# Altium schematic symbol library Resistor.SchLib: 93 symbols (part 1 of 2)
Pins are listed as number, name and electrical type; pins without a type are passive.

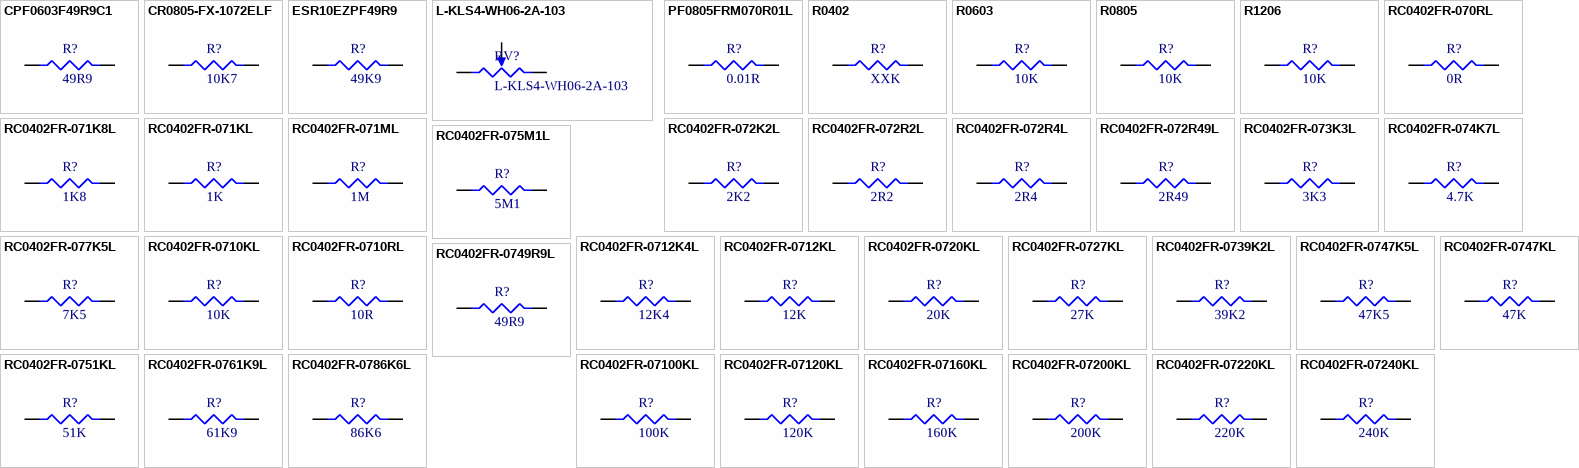
[diagram p0: symbols CPF0603F49R9C1 to RC0402FR-07240KL]

## CPF0603F49R9C1
designator R?, comment 49R9
49.9R, %1, 1/10W, 0603; Manufacturer: TE CON; Manufacturer Part Number: CPF0603F49R9C1; Tolerance: 1%; Value: 49.9; Temperature Coefficient: 50ppm/°C; Power Rating: 125mW; Voltage Rating: 50V; Purpose Of Usage: BASIC; Supplier 1: Digi-Key; Supplier Part Number 1: A102283CT-ND; RoHS: YES; Mount: SMD; Case/Package: 0603; Case Code (Imperial): 0603; Min Operating Temperature: -55°C; Max Operating Temperature: 155°C; Voltage Rating (DC): 50V; Category: RESISTOR; Sub-Category: CHIP RESISTOR; Stock ID: ??; Max Power Dissipation: 125mW; Price 10K: 0.0025; Local Supplier: GENERAL
footprint R0603
simulation model R_Resistor_Default (Model Description)
pins: 1, 2

## CR0805-FX-1072ELF
designator R?, comment 10K7
10.7K, %1, 1/8W, 0805; Manufacturer: BOURNS; Manufacturer Part Number: CR0805-FX-1072ELF; Value: 10700; Tolerance: 1%; Power Rating: 125mW; Voltage Rating: 150V; Temperature Coefficient: 100ppm/°C; Purpose Of Usage: BASIC; Supplier 1: Digi-Key; Supplier Part Number 1: CR0805-FX-1072ELF-ND; RoHS: YES; Mount: SMD; Case/Package: 0805; Case Code (Imperial): 0805; Min Operating Temperature: -55°C; Max Operating Temperature: 155°C; Max Power Dissipation: 125mW; Category: RESISTOR; Sub-Category: CHIP RESISTOR; Stock ID: ??; Price 10K: 0.0025; Local Supplier: GENERAL
footprint R0805
pins: 1, 2

## ESR10EZPF49R9
designator R?, comment 49K9
49.9R, %1, 1/8W, 0805; Manufacturer: ROHM; Manufacturer Part Number: ESR10EZPF49R9; Value: 49.9; Tolerance: 1%; Max Power Dissipation: 400mW; Temperature Coefficient: 100ppm/°C; Purpose Of Usage: BASIC; Supplier 1: Digi-Key; Supplier Part Number 1: RHM49.9AECT-ND; RoHS: YES; Case/Package: 0805; Case Code (Imperial): 0805; Min Operating Temperature: -55°C; Max Operating Temperature: 155°C; Category: RESISTOR; Sub-Category: CHIP RESISTOR; Stock ID: ??; Mount: SMD; Power Rating: 400mW; Price 10K: 0.0025; Local Supplier: GENERAL
footprint R0805
pins: 1, 2

## L-KLS4-WH06-2A-103
designator RV?
10K, %5, 1/10W, THT; Manufacturer: KLS ELECTRONIC; Max Power Dissipation: 100mW; Value: 10000; Tolerance: 5%; Purpose Of Usage: BASIC; Category: RESISTOR; Manufacturer Part Number: L-KLS4-WH06-2A-103; Supplier 1: Özdisan; Supplier Part Number 1: L-KLS4-WH06-2A-103; Sub-Category: TRIMPOT; Stock ID: ??; Mount: THT; Min Operating Temperature: -25°C; Power Rating: 100mW; RoHS: YES; Max Operating Temperature: 75°C; Price 10K: 0.0025; Local Supplier: GENERAL
footprint L-KLS4-WH06-2A-103
pins: 1, 2, 3

## PF0805FRM070R01L
designator R?, comment 0.01R
0.01R, %1,  1/8W, 0805; Manufacturer: YAGEO; Manufacturer Part Number: PF0805FRM070R01L; Max Power Dissipation: 125mW; Temperature Coefficient: 75ppm/°C; Value: 0.01; Tolerance: 1%; Purpose Of Usage: BASIC; Supplier 1: Digi-Key; RoHS: YES; Category: RESISTOR; Case/Package: 0805; Case Code (Imperial): 0805; Supplier Part Number 1: 311-0.01NTTR-ND; Mount: SMD; Stock ID: ??; Sub-Category: CHIP RESISTOR; Price 10K: 0.0025; Local Supplier: GENERAL
footprint R0805 (Chip Resistor, 2-Leads, Body 2.00x1.25mm, IPC Medium Density)
pins: 1, 2

## R0402
designator R?, comment XXK
RES; Manufacturer: YAGEO; Manufacturer Part Number: RC0201FR-0710KL; Value: 10000; Tolerance: 1%; Power Rating: 50mW; Voltage Rating: 25V; Temperature Coefficient: 200ppm/°C; Purpose Of Usage: BASIC; Supplier 1: Digi-Key; Supplier Part Number 1: 311-10.0KMCT-ND; RoHS: YES; Case/Package: 0201; Case Code (Imperial): 0201; Min Operating Temperature: -55°C; Max Operating Temperature: 125°C; Max Power Dissipation: 50mW; Voltage Rating (DC): 25V; Working Voltage: 25V; Category: RESISTOR; Sub-Category: CHIP RESISTOR; Stock ID: ??; Mount: SMD; Price 10K: 0.0025; Local Supplier: GENERAL
footprint R0402 (Chip Resistor, 2-Leads, Body 1.00x0.50mm, IPC Medium Density)
pins: 1, 2

## R0603
designator R?, comment 10K
RES; Manufacturer: YAGEO; Manufacturer Part Number: RC0201FR-0710KL; Value: 10000; Tolerance: 1%; Power Rating: 50mW; Voltage Rating: 25V; Temperature Coefficient: 200ppm/°C; Purpose Of Usage: BASIC; Supplier 1: Digi-Key; Supplier Part Number 1: 311-10.0KMCT-ND; RoHS: YES; Case/Package: 0201; Case Code (Imperial): 0201; Min Operating Temperature: -55°C; Max Operating Temperature: 125°C; Max Power Dissipation: 50mW; Voltage Rating (DC): 25V; Working Voltage: 25V; Category: RESISTOR; Sub-Category: CHIP RESISTOR; Stock ID: ??; Mount: SMD; Price 10K: 0.0025; Local Supplier: GENERAL
footprint R0603
pins: 1, 2

## R0805
designator R?, comment 10K
RES; Manufacturer: PANASONIC; Manufacturer Part Number: ERJ6GEYJ514V; Value: 510000; Power Rating: 125mW; Tolerance: 5%; Voltage Rating: 150V; Temperature Coefficient: 200ppm/°C; Purpose Of Usage: BASIC; Supplier 1: Digi-Key; Supplier Part Number 1: P510KACT-ND; RoHS: YES; Mount: SMD; Case/Package: 0805; Case Code (Imperial): 0805; Min Operating Temperature: -55°C; Max Operating Temperature: 155°C; Max Power Dissipation: 125mW; Voltage Rating (DC): 150V; Category: RESISTOR; Sub-Category: CHIP RESISTOR; Stock ID: ??; Price 10K: 0.0025; Local Supplier: GENERAL
footprint R0805
pins: 1, 2

## R1206
designator R?, comment 10K
RES; Manufacturer: YAGEO; Manufacturer Part Number: RC1206FR-0710KL; Value: 10000; Power Rating: 250mW; Tolerance: 1%; Temperature Coefficient: 100ppm/°C; Voltage Rating: 200V; Purpose Of Usage: BASIC; Supplier 1: Digi-Key; Supplier Part Number 1: 311-10.0KFRTR-ND; RoHS: YES; Case/Package: 1206; Case Code (Imperial): 1206; Min Operating Temperature: -55°C; Max Operating Temperature: 155°C; Category: RESISTOR; Sub-Category: CHIP RESISTOR; Stock ID: ??; Mount: SMD; Max Power Dissipation: 250mW; Price 10K: 0.0025; Local Supplier: GENERAL
footprint R1206
pins: 1, 2

## RC0402FR-070RL
designator R?, comment 0R
0R, %1, 1/10W,  0402; Manufacturer: YAGEO; Manufacturer Part Number: RC0402FR-070RL; Value: 0; Tolerance: 1%; Power Rating: 63mW; Voltage Rating: 50V; Temperature Coefficient: 200ppm/°C; Purpose Of Usage: BASIC; Supplier 1: Digi-Key; RoHS: YES; Mount: SMD; Case/Package: 0402; Case Code (Imperial): 0402; Min Operating Temperature: -55°C; Max Operating Temperature: 155°C; Max Power Dissipation: 63mW; Category: RESISTOR; Supplier Part Number 1: 311-0.0LRCT-ND; Sub-Category: CHIP RESISTOR; Stock ID: ??; Price 10K: 0.0025; Local Supplier: GENERAL
footprint R0402
pins: 1, 2

## RC0402FR-071K8L
designator R?, comment 1K8
1.8K, %1, 1/16W, 0402; Manufacturer: YAGEO; Manufacturer Part Number: RC0402FR-071K8L; Tolerance: 1%; Power Rating: 63mW; Value: 1800; Voltage Rating: 50V; Temperature Coefficient: 100ppm/°C; Purpose Of Usage: BASIC; Supplier 1: Digi-Key; RoHS: YES; Category: RESISTOR; Case/Package: 0402; Case Code (Imperial): 0402; Min Operating Temperature: -55°C; Max Operating Temperature: 155°C; Max Power Dissipation: 63mW; Working Voltage: 50V; Supplier Part Number 1: 311-1.80KLRCT-ND; Mount: SMD; Stock ID: ??; Sub-Category: CHIP RESISTOR; Price 10K: 0.0025; Local Supplier: GENERAL
footprint R0402 (Chip Resistor, 2-Leads, Body 1.00x0.50mm, IPC Medium Density)
pins: 1, 2

## RC0402FR-071KL
designator R?, comment 1K
1K, %1, 1/16W, 0402; Manufacturer: YAGEO; Manufacturer Part Number: RC0402FR-071KL; Tolerance: 1%; Value: 1000; Temperature Coefficient: 100ppm/°C; Power Rating: 63mW; Voltage Rating: 50V; Purpose Of Usage: BASIC; Supplier 1: Digi-Key; RoHS: YES; Category: RESISTOR; Case/Package: 0402; Case Code (Imperial): 0402; Min Operating Temperature: -55°C; Max Operating Temperature: 155°C; Voltage Rating (DC): 50V; Max Power Dissipation: 63mW; Supplier Part Number 1: 311-1.00KLRCT-ND; Stock ID: ??; Mount: SMD; Sub-Category: CHIP RESISTOR; Price 10K: 0.0025; Local Supplier: GENERAL
footprint R0402 (Chip Resistor, 2-Leads, Body 1.00x0.50mm, IPC Medium Density)
pins: 1, 2

## RC0402FR-071ML
designator R?, comment 1M
1M, %1, 1/16W, 0402; Manufacturer: YAGEO; Manufacturer Part Number: RC0402FR-071ML; Value: 1000000; Tolerance: 1%; Power Rating: 63mW; Voltage Rating: 50V; Temperature Coefficient: 100ppm/°C; Purpose Of Usage: BASIC; Supplier 1: Digi-Key; RoHS: YES; Category: RESISTOR; Case/Package: 0402; Case Code (Imperial): 0402; Min Operating Temperature: -55°C; Max Operating Temperature: 155°C; Max Power Dissipation: 63mW; Supplier Part Number 1: 311-1.00MLRTR-ND; Mount: SMD; Price 10K: 0.0025; Stock ID: ??; Sub-Category: CHIP RESISTOR; Voltage Rating (DC): 50V; Local Supplier: GENERAL
footprint R0402 (Chip Resistor, 2-Leads, Body 1.00x0.50mm, IPC Medium Density)
pins: 1, 2

## RC0402FR-072K2L
designator R?, comment 2K2
2.2K, %1, 1/16W, 0402; Manufacturer: YAGEO; Manufacturer Part Number: RC0402FR-072K2L; Value: 2200; Tolerance: 1%; Power Rating: 62.5mW; Temperature Coefficient: 100ppm/°C; Voltage Rating: 50V; Max Power Dissipation: 63mW; Purpose Of Usage: BASIC; Supplier 1: Digi-Key; RoHS: YES; Category: RESISTOR; Case/Package: 0402; Case Code (Imperial): 0402; Min Operating Temperature: -55°C; Max Operating Temperature: 155°C; Supplier Part Number 1: 311-2.20KLRCT-ND; Mount: SMD; Stock ID: ??; Sub-Category: CHIP RESISTOR; Price 10K: 0.0025; Local Supplier: GENERAL
footprint R0402 (Chip Resistor, 2-Leads, Body 1.00x0.50mm, IPC Medium Density)
pins: 1, 2

## RC0402FR-072R2L
designator R?, comment 2R2
2.2R, %1, 1/16W, 0402; Manufacturer: YAGEO; Manufacturer Part Number: RC0402FR-072R2L; Value: 2.2; Tolerance: 1%; Power Rating: 63mW; Voltage Rating: 50V; Temperature Coefficient: 200ppm/°C; Purpose Of Usage: BASIC; Supplier 1: Digi-Key; RoHS: YES; Category: RESISTOR; Case/Package: 0402; Case Code (Imperial): 0402; Min Operating Temperature: -55°C; Max Operating Temperature: 155°C; Voltage Rating (DC): 50V; Max Power Dissipation: 63mW; Supplier Part Number 1: 311-2.20LRCT-ND; Stock ID: ??; Mount: SMD; Sub-Category: CHIP RESISTOR; Price 10K: 0.0025; Local Supplier: GENERAL
footprint R0402 (Chip Resistor, 2-Leads, Body 1.00x0.50mm, IPC Medium Density)
pins: 1, 2

## RC0402FR-072R4L
designator R?, comment 2R4
2.4R, %1, 1/16W, 0402; Manufacturer: YAGEO; Manufacturer Part Number: RC0402FR-072R4L; Value: 2.4; Power Rating: 62.5mW; Tolerance: 1%; Voltage Rating: 50V; Temperature Coefficient: 200ppm/°C; Max Power Dissipation: 63mW; Purpose Of Usage: BASIC; Supplier 1: Digi-Key; RoHS: YES; Category: RESISTOR; Case/Package: 0402; Case Code (Imperial): 0402; Min Operating Temperature: -55°C; Max Operating Temperature: 155°C; Voltage Rating (DC): 50V; Supplier Part Number 1: 13-RC0402FR-072R4LTR-ND; Mount: SMD; Stock ID: ??; Sub-Category: CHIP RESISTOR; Price 10K: 0.0025; Local Supplier: GENERAL
footprint R0402 (Chip Resistor, 2-Leads, Body 1.00x0.50mm, IPC Medium Density)
pins: 1, 2

## RC0402FR-072R49L
designator R?, comment 2R49
2.49R %1 1/16W 0402; Manufacturer: YAGEO; Manufacturer Part Number: RC0402FR-072R49L; Tolerance: 1%; Temperature Coefficient: 200ppm/°C; Power Rating: 62.5mW; Voltage Rating: 50V; Max Power Dissipation: 63mW; Value: 2.49; Purpose Of Usage: BASIC; Supplier 1: Digi-Key; RoHS: YES; Category: RESISTOR; Case/Package: 0402; Case Code (Imperial): 0402; Min Operating Temperature: -55°C; Max Operating Temperature: 155°C; Supplier Part Number 1: 13-RC0402FR-072R49LCT-ND; Mount: SMD; Stock ID: ??; Sub-Category: CHIP RESISTOR; Price 10K: 0.0025; Local Supplier: GENERAL
footprint R0402 (Chip Resistor, 2-Leads, Body 1.00x0.50mm, IPC Medium Density)
pins: 1, 2

## RC0402FR-073K3L
designator R?, comment 3K3
3.3K, %1, 1/16W, 0402; Manufacturer: YAGEO; Manufacturer Part Number: RC0402FR-073K3L; Value: 3300; Tolerance: 1%; Power Rating: 63mW; Voltage Rating: 50V; Temperature Coefficient: 100ppm/°C; Purpose Of Usage: BASIC; Supplier 1: Digi-Key; RoHS: YES; Category: RESISTOR; Case/Package: 0402; Case Code (Imperial): 0402; Min Operating Temperature: -55°C; Max Operating Temperature: 155°C; Max Power Dissipation: 63mW; Voltage Rating (DC): 50V; Supplier Part Number 1: 311-3.30KLRTR-ND; Local Supplier: GENERAL; Mount: SMD; Price 10K: 0.0025; Stock ID: ??; Sub-Category: CHIP RESISTOR
footprint R0402 (Chip Resistor, 2-Leads, Body 1.00x0.50mm, IPC Medium Density)
pins: 1, 2

## RC0402FR-074K7L
designator R?, comment 4.7K
4.7K, %1, 1/16W, 0402; Manufacturer: YAGEO; Manufacturer Part Number: RC0402FR-074K7L; Voltage Rating (DC): 50V; Tolerance: 1%; Power Rating: 63mW; Value: 4700; Temperature Coefficient: 100ppm/°C; Purpose Of Usage: BASIC; Supplier 1: Digi-Key; RoHS: YES; Category: RESISTOR; Case/Package: 0402; Case Code (Imperial): 0402; Min Operating Temperature: -55°C; Max Operating Temperature: 155°C; Voltage Rating: 50V; Max Power Dissipation: 63mW; Supplier Part Number 1: 311-4.7KLRCT-ND; Stock ID: ??; Mount: SMD; Sub-Category: CHIP RESISTOR; Price 10K: 0.0025; Local Supplier: GENERAL
footprint R0402 (Chip Resistor, 2-Leads, Body 1.00x0.50mm, IPC Medium Density)
pins: 1, 2

## RC0402FR-075M1L
designator R?, comment 5M1
5.1M, %1, 1/16W, 0402; Manufacturer: YAGEO; Manufacturer Part Number: RC0402FR-075M1L; Max Power Dissipation: 63mW; Purpose Of Usage: BASIC; Temperature Coefficient: 100ppm/°C; Tolerance: 1%; Value: 5100000; Voltage Rating: 50V; Supplier 1: Digi-Key; RoHS: YES; Category: RESISTOR; Supplier Part Number 1: 13-RC0402FR-075M1LDKR-ND; Case/Package: 0402; Case Code (Imperial): 0402; Local Supplier: GENERAL; Max Operating Temperature: 155°C; Min Operating Temperature: -55°C; Mount: SMD; Power Rating: 63mW; Price 10K: 0.0025; Sub-Category: CHIP RESISTOR; Stock ID: ??
footprint R0402 (Chip Resistor, 2-Leads, Body 1.00x0.50mm, IPC Medium Density)
pins: 1, 2

## RC0402FR-077K5L
designator R?, comment 7K5
7.5K, %1, 1/16W, 0402; Manufacturer: YAGEO; Manufacturer Part Number: RC0402FR-077K5L; Value: 7500; Power Rating: 63mW; Tolerance: 1%; Voltage Rating: 50V; Temperature Coefficient: 100ppm/°C; Purpose Of Usage: BASIC; Supplier 1: Digi-Key; RoHS: YES; Category: RESISTOR; Case/Package: 0402; Case Code (Imperial): 0402; Min Operating Temperature: -55°C; Max Operating Temperature: 155°C; Max Power Dissipation: 63mW; Voltage Rating (DC): 50V; Supplier Part Number 1: 311-7.50KLRTR-ND; Mount: SMD; Stock ID: ??; Sub-Category: CHIP RESISTOR; Price 10K: 0.0025; Local Supplier: GENERAL
footprint R0402 (Chip Resistor, 2-Leads, Body 1.00x0.50mm, IPC Medium Density)
pins: 1, 2

## RC0402FR-0710KL
designator R?, comment 10K
10K, %1, 1/16W, 0402; Manufacturer: YAGEO; Manufacturer Part Number: RC0402FR-0710KL; Voltage Rating: 50V; Value: 10000; Power Rating: 63mW; Tolerance: 1%; Temperature Coefficient: 100ppm/°C; Purpose Of Usage: BASIC; Supplier 1: Digi-Key; RoHS: YES; Category: RESISTOR; Case/Package: 0402; Case Code (Imperial): 0402; Min Operating Temperature: -55°C; Max Operating Temperature: 155°C; Max Power Dissipation: 63mW; Voltage Rating (DC): 50V; Working Voltage: 50V; Supplier Part Number 1: 311-10.0KLRCT-ND; Stock ID: ??; Mount: SMD; Sub-Category: CHIP RESISTOR; Price 10K: 0.0025; Local Supplier: GENERAL
footprint R0402 (Chip Resistor, 2-Leads, Body 1.00x0.50mm, IPC Medium Density)
pins: 1, 2

## RC0402FR-0710RL
designator R?, comment 10R
10R, %1, 1/16W, 0402; Manufacturer: YAGEO; Manufacturer Part Number: RC0402FR-0710RL; Tolerance: 1%; Power Rating: 62.5mW; Voltage Rating: 50V; Value: 10; Temperature Coefficient: 200ppm/°C; Max Power Dissipation: 63mW; Purpose Of Usage: BASIC; Supplier 1: Digi-Key; RoHS: YES; Category: RESISTOR; Case/Package: 0402; Case Code (Imperial): 0402; Min Operating Temperature: -55°C; Max Operating Temperature: 155°C; Working Voltage: 50V; Supplier Part Number 1: 311-10.0LRTR-ND; Local Supplier: GENERAL; Mount: SMD; Price 10K: 0.0025; Stock ID: ??; Sub-Category: CHIP RESISTOR; Voltage Rating (DC): 50V
footprint R0402 (Chip Resistor, 2-Leads, Body 1.00x0.50mm, IPC Medium Density)
pins: 1, 2

## RC0402FR-0712K4L
designator R?, comment 12K4
12.4K, %1, 1/16W, 0402; Manufacturer: YAGEO; Manufacturer Part Number: RC0402FR-0712K4L; Tolerance: 1%; Value: 12400; Power Rating: 62.5mW; Voltage Rating: 50V; Temperature Coefficient: 100ppm/°C; Max Power Dissipation: 63mW; Purpose Of Usage: BASIC; Supplier 1: Digi-Key; RoHS: YES; Category: RESISTOR; Case/Package: 0402; Case Code (Imperial): 0402; Min Operating Temperature: -55°C; Max Operating Temperature: 155°C; Voltage Rating (DC): 50V; Supplier Part Number 1: 311-12.4KLRTR-ND; Mount: SMD; Price 10K: 0.0025; Stock ID: ??; Sub-Category: CHIP RESISTOR; Local Supplier: GENERAL
footprint R0402 (Chip Resistor, 2-Leads, Body 1.00x0.50mm, IPC Medium Density)
pins: 1, 2

## RC0402FR-0712KL
designator R?, comment 12K
12K, %1, 1/16W, 0402; Manufacturer: YAGEO; Manufacturer Part Number: RC0402FR-0712KL; Value: 12000; Tolerance: 1%; Power Rating: 62.5mW; Voltage Rating: 50V; Max Power Dissipation: 63mW; Temperature Coefficient: 100ppm/°C; Purpose Of Usage: BASIC; Supplier 1: Digi-Key; RoHS: Yes; Category: RESISTOR; Case/Package: 0402; Case Code (Imperial): 0402; Min Operating Temperature: -55°C; Max Operating Temperature: 155°C; Supplier Part Number 1: 311-12.0KLRCT-ND; Local Supplier: GENERAL; Mount: SMD; Price 10K: 0.0025; Stock ID: ??; Sub-Category: CHIP RESISTOR; Voltage Rating (DC): 50V
footprint R0402 (Chip Resistor, 2-Leads, Body 1.00x0.50mm, IPC Medium Density)
pins: 1, 2

## RC0402FR-0720KL
designator R?, comment 20K
20K, %1, 1/16W, 0402; Manufacturer: YAGEO; Manufacturer Part Number: RC0402FR-0720KL; Tolerance: 1%; Value: 20000; Power Rating: 62.5mW; Voltage Rating: 50V; Temperature Coefficient: 100ppm/°C; Max Power Dissipation: 63mW; Purpose Of Usage: BASIC; Supplier 1: Digi-Key; RoHS: YES; Category: RESISTOR; Case/Package: 0402; Case Code (Imperial): 0402; Min Operating Temperature: -55°C; Max Operating Temperature: 155°C; Voltage Rating (DC): 50V; Supplier Part Number 1: 311-20.0KLRTR-ND; Mount: SMD; Stock ID: ??; Sub-Category: CHIP RESISTOR; Price 10K: 0.0025; Local Supplier: GENERAL
footprint R0402 (Chip Resistor, 2-Leads, Body 1.00x0.50mm, IPC Medium Density)
pins: 1, 2

## RC0402FR-0727KL
designator R?, comment 27K
27K, %1, 1/16W, 0402; Manufacturer: YAGEO; Manufacturer Part Number: RC0402FR-0727KL; Value: 27000; Tolerance: 1%; Power Rating: 63mW; Temperature Coefficient: 100ppm/°C; Voltage Rating: 50V; Purpose Of Usage: BASIC; Supplier 1: Digi-Key; RoHS: YES; Category: RESISTOR; Case/Package: 0402; Case Code (Imperial): 0402; Min Operating Temperature: -55°C; Max Operating Temperature: 155°C; Max Power Dissipation: 63mW; Supplier Part Number 1: 311-27.0KLRCT-ND; Local Supplier: GENERAL; Mount: SMD; Price 10K: 0.0025; Stock ID: ??; Sub-Category: CHIP RESISTOR
footprint R0402 (Chip Resistor, 2-Leads, Body 1.00x0.50mm, IPC Medium Density)
pins: 1, 2

## RC0402FR-0739K2L
designator R?, comment 39K2
39.2K, %1, 1/16W, 0402; Manufacturer: YAGEO; Manufacturer Part Number: RC0402FR-0739K2L; Value: 39200; Tolerance: 1%; Power Rating: 62.5mW; Voltage Rating: 50V; Temperature Coefficient: 100ppm/°C; Max Power Dissipation: 63mW; Purpose Of Usage: BASIC; Supplier 1: Digi-Key; RoHS: YES; Category: RESISTOR; Case/Package: 0402; Case Code (Imperial): 0402; Min Operating Temperature: -55°C; Max Operating Temperature: 155°C; Voltage Rating (DC): 50V; Working Voltage: 50V; Supplier Part Number 1: 311-39.2KLRTR-ND; Local Supplier: GENERAL; Mount: SMD; Price 10K: 0.0025; Stock ID: ??; Sub-Category: CHIP RESISTOR
footprint R0402 (Chip Resistor, 2-Leads, Body 1.00x0.50mm, IPC Medium Density)
pins: 1, 2

## RC0402FR-0747K5L
designator R?, comment 47K5
47.5K, %1, 1/16W, 0402; Manufacturer: YAGEO; Manufacturer Part Number: RC0402FR-0747K5L; Value: 47500; Power Rating: 63mW; Tolerance: 1%; Voltage Rating: 50V; Temperature Coefficient: 100ppm/°C; Purpose Of Usage: BASIC; Supplier 1: Digi-Key; RoHS: YES; Category: RESISTOR; Case/Package: 0402; Case Code (Imperial): 0402; Min Operating Temperature: -55°C; Max Operating Temperature: 155°C; Voltage Rating (DC): 50V; Max Power Dissipation: 63mW; Supplier Part Number 1: 311-47.5KLRCT-ND; Stock ID: ??; Mount: SMD; Sub-Category: CHIP RESISTOR; Price 10K: 0.0025; Local Supplier: GENERAL
footprint R0402 (Chip Resistor, 2-Leads, Body 1.00x0.50mm, IPC Medium Density)
pins: 1, 2

## RC0402FR-0747KL
designator R?, comment 47K
47K, %1, 1/16W, 0402; Manufacturer: YAGEO; Manufacturer Part Number: RC0402FR-0747KL; Power Rating: 62.5mW; Tolerance: 1%; Voltage Rating: 50V; Value: 47000; Temperature Coefficient: 100ppm/°C; Max Power Dissipation: 63mW; Purpose Of Usage: BASIC; Supplier 1: Digi-Key; RoHS: YES; Category: RESISTOR; Case/Package: 0402; Case Code (Imperial): 0402; Min Operating Temperature: -55°C; Max Operating Temperature: 155°C; Supplier Part Number 1: 311-47.0KLRDKR-ND; Local Supplier: GENERAL; Mount: SMD; Price 10K: 0.0025; Stock ID: ??; Sub-Category: CHIP RESISTOR
footprint R0402 (Chip Resistor, 2-Leads, Body 1.00x0.50mm, IPC Medium Density)
pins: 1, 2

## RC0402FR-0749R9L
designator R?, comment 49R9
49.9R, %1, 1/16W, 0402; Manufacturer: YAGEO; Manufacturer Part Number: RC0402FR-0749R9L; Value: 49.9; Tolerance: 1%; Power Rating: 62.5mW; Voltage Rating: 50V; Temperature Coefficient: 100ppm/°C; Max Power Dissipation: 63mW; Purpose Of Usage: BASIC; Supplier 1: Digi-Key; RoHS: YES; Category: RESISTOR; Case/Package: 0402; Case Code (Imperial): 0402; Min Operating Temperature: -55°C; Max Operating Temperature: 155°C; Voltage Rating (DC): 50V; Working Voltage: 50V; Supplier Part Number 1: 311-49.9LRTR-ND; Mount: SMD; Price 10K: 0.0025; Stock ID: ??; Sub-Category: CHIP RESISTOR; Local Supplier: GENERAL
footprint R0402 (Chip Resistor, 2-Leads, Body 1.00x0.50mm, IPC Medium Density)
pins: 1, 2

## RC0402FR-0751KL
designator R?, comment 51K
51K, %1, 1/16W, 0402; Manufacturer: YAGEO; Manufacturer Part Number: RC0402FR-0751KL; Tolerance: 1%; Value: 51000; Power Rating: 63mW; Voltage Rating: 50V; Temperature Coefficient: 100ppm/°C; Purpose Of Usage: BASIC; Supplier 1: Digi-Key; RoHS: YES; Category: RESISTOR; Case/Package: 0402; Case Code (Imperial): 0402; Min Operating Temperature: -55°C; Max Operating Temperature: 155°C; Max Power Dissipation: 63mW; Voltage Rating (DC): 50V; Working Voltage: 50V; Supplier Part Number 1: 311-51.0KLRTR-ND; Stock ID: ??; Sub-Category: CHIP RESISTOR; Mount: SMD; Price 10K: 0.0025; Local Supplier: GENERAL
footprint R0402 (Chip Resistor, 2-Leads, Body 1.00x0.50mm, IPC Medium Density)
pins: 1, 2

## RC0402FR-0761K9L
designator R?, comment 61K9
61.9K, %1, 1/16W, 0402; Manufacturer: YAGEO; Manufacturer Part Number: RC0402FR-0761K9L; Value: 61900; Tolerance: 1%; Power Rating: 63mW; Temperature Coefficient: 100ppm/°C; Voltage Rating (DC): 50V; Purpose Of Usage: BASIC; Supplier 1: Digi-Key; RoHS: YES; Category: RESISTOR; Case/Package: 0402; Case Code (Imperial): 0402; Min Operating Temperature: -55°C; Max Operating Temperature: 155°C; Max Power Dissipation: 63mW; Supplier Part Number 1: 311-61.9KLRTR-ND; Local Supplier: GENERAL; Mount: SMD; Price 10K: 0.0025; Stock ID: ??; Sub-Category: CHIP RESISTOR
footprint R0402 (Chip Resistor, 2-Leads, Body 1.00x0.50mm, IPC Medium Density)
pins: 1, 2

## RC0402FR-0786K6L
designator R?, comment 86K6
86.6K, %1, 1/16W, 0402; Manufacturer: YAGEO; Manufacturer Part Number: RC0402FR-0786K6L; Value: 86600; Tolerance: 1%; Power Rating: 62.5mW; Voltage Rating: 50V; Temperature Coefficient: 100ppm/°C; Max Power Dissipation: 63mW; Purpose Of Usage: BASIC; Supplier 1: Digi-Key; RoHS: YES; Category: RESISTOR; Case/Package: 0402; Case Code (Imperial): 0402; Min Operating Temperature: -55°C; Max Operating Temperature: 155°C; Supplier Part Number 1: YAG3249TR-ND; Local Supplier: GENERAL; Price 10K: 0.0025; Stock ID: ??; Sub-Category: CHIP RESISTOR; Mount: SMD
footprint R0402 (Chip Resistor, 2-Leads, Body 1.00x0.50mm, IPC Medium Density)
pins: 1, 2

## RC0402FR-07100KL
designator R?, comment 100K
100K, %1, 1/16W, 0402; Manufacturer: YAGEO; Manufacturer Part Number: RC0402FR-07100KL; Power Rating: 63mW; Tolerance: 1%; Voltage Rating: 50V; Value: 100000; Temperature Coefficient: 100ppm/°C; Purpose Of Usage: BASIC; Supplier 1: Digi-Key; RoHS: YES; Category: RESISTOR; Case/Package: 0402; Case Code (Imperial): 0402; Min Operating Temperature: -55°C; Max Operating Temperature: 155°C; Max Power Dissipation: 63mW; Working Voltage: 50V; Supplier Part Number 1: 311-100KLRCT-ND; Stock ID: ??; Mount: SMD; Sub-Category: CHIP RESISTOR; Price 10K: 0.0025; Local Supplier: GENERAL
footprint R0402 (Chip Resistor, 2-Leads, Body 1.00x0.50mm, IPC Medium Density)
pins: 1, 2

## RC0402FR-07120KL
designator R?, comment 120K
120K, %1, 1/16W, 0402; Manufacturer: YAGEO; Manufacturer Part Number: RC0402FR-07120KL; Value: 120000; Power Rating: 63mW; Tolerance: 1%; Voltage Rating: 50V; Temperature Coefficient: 100ppm/°C; Purpose Of Usage: BASIC; Supplier 1: Digi-Key; RoHS: YES; Category: RESISTOR; Case/Package: 0402; Case Code (Imperial): 0402; Min Operating Temperature: -55°C; Max Operating Temperature: 155°C; Max Power Dissipation: 63mW; Working Voltage: 50V; Supplier Part Number 1: 311-120KLRDKR-ND; Mount: SMD; Stock ID: ??; Sub-Category: CHIP RESISTOR; Price 10K: 0.0025; Local Supplier: GENERAL
footprint R0402 (Chip Resistor, 2-Leads, Body 1.00x0.50mm, IPC Medium Density)
pins: 1, 2

## RC0402FR-07160KL
designator R?, comment 160K
160K, %1, 1/16W, 0402; Manufacturer: YAGEO; Manufacturer Part Number: RC0402FR-07160KL; Value: 160000; Tolerance: 1%; Power Rating: 63mW; Voltage Rating: 50V; Temperature Coefficient: 100ppm/°C; Purpose Of Usage: BASIC; Supplier 1: Digi-Key; RoHS: YES; Category: RESISTOR; Case/Package: 0402; Case Code (Imperial): 0402; Min Operating Temperature: -55°C; Max Operating Temperature: 155°C; Max Power Dissipation: 63mW; Voltage Rating (DC): 50V; Working Voltage: 50V; Supplier Part Number 1: YAG2996CT-ND; Local Supplier: GENERAL; Price 10K: 0.0025; Stock ID: ??; Sub-Category: CHIP RESISTOR; Mount: SMD
footprint R0402 (Chip Resistor, 2-Leads, Body 1.00x0.50mm, IPC Medium Density)
pins: 1, 2

## RC0402FR-07200KL
designator R?, comment 200K
200K, %1, 1/16W, 0402; Manufacturer: YAGEO; Manufacturer Part Number: RC0402FR-07200KL; Power Rating: 63mW; Tolerance: 1%; Voltage Rating: 50V; Temperature Coefficient: 100ppm/°C; Value: 200000; Purpose Of Usage: BASIC; Supplier 1: Digi-Key; RoHS: YES; Category: RESISTOR; Case/Package: 0402; Case Code (Imperial): 0402; Min Operating Temperature: -55°C; Max Operating Temperature: 155°C; Max Power Dissipation: 63mW; Voltage Rating (DC): 50V; Working Voltage: 50V; Supplier Part Number 1: 311-200KLRCT-ND; Mount: SMD; Stock ID: ??; Sub-Category: CHIP RESISTOR; Price 10K: 0.0025; Local Supplier: GENERAL
footprint R0402 (Chip Resistor, 2-Leads, Body 1.00x0.50mm, IPC Medium Density)
pins: 1, 2

## RC0402FR-07220KL
designator R?, comment 220K
220K, %1, 1/16W, 0402; Manufacturer: YAGEO; Manufacturer Part Number: RC0402FR-07220KL; Value: 220000; Power Rating: 62.5mW; Tolerance: 1%; Temperature Coefficient: 100ppm/°C; Voltage Rating: 50V; Max Power Dissipation: 63mW; Purpose Of Usage: BASIC; Supplier 1: Digi-Key; RoHS: YES; Category: RESISTOR; Case/Package: 0402; Case Code (Imperial): 0402; Min Operating Temperature: -55°C; Max Operating Temperature: 155°C; Supplier Part Number 1: 311-220KLRTR-ND; Mount: SMD; Stock ID: ??; Sub-Category: CHIP RESISTOR; Price 10K: 0.0025; Local Supplier: GENERAL
footprint R0402 (Chip Resistor, 2-Leads, Body 1.00x0.50mm, IPC Medium Density)
pins: 1, 2

## RC0402FR-07240KL
designator R?, comment 240K
240K, %1, 1/16W, 0402; Manufacturer: YAGEO; Manufacturer Part Number: RC0402FR-07240KL; Value: 240000; Power Rating: 62.5mW; Tolerance: 1%; Voltage Rating: 50V; Temperature Coefficient: 100ppm/°C; Max Power Dissipation: 63mW; Purpose Of Usage: BASIC; Supplier 1: Digi-Key; RoHS: YES; Category: RESISTOR; Case/Package: 0402; Case Code (Imperial): 0402; Min Operating Temperature: -55°C; Max Operating Temperature: 155°C; Voltage Rating (DC): 50V; Supplier Part Number 1: 311-240KLRTR-ND; Mount: SMD; Stock ID: ??; Sub-Category: CHIP RESISTOR; Price 10K: 0.0025; Local Supplier: GENERAL
footprint R0402 (Chip Resistor, 2-Leads, Body 1.00x0.50mm, IPC Medium Density)
pins: 1, 2

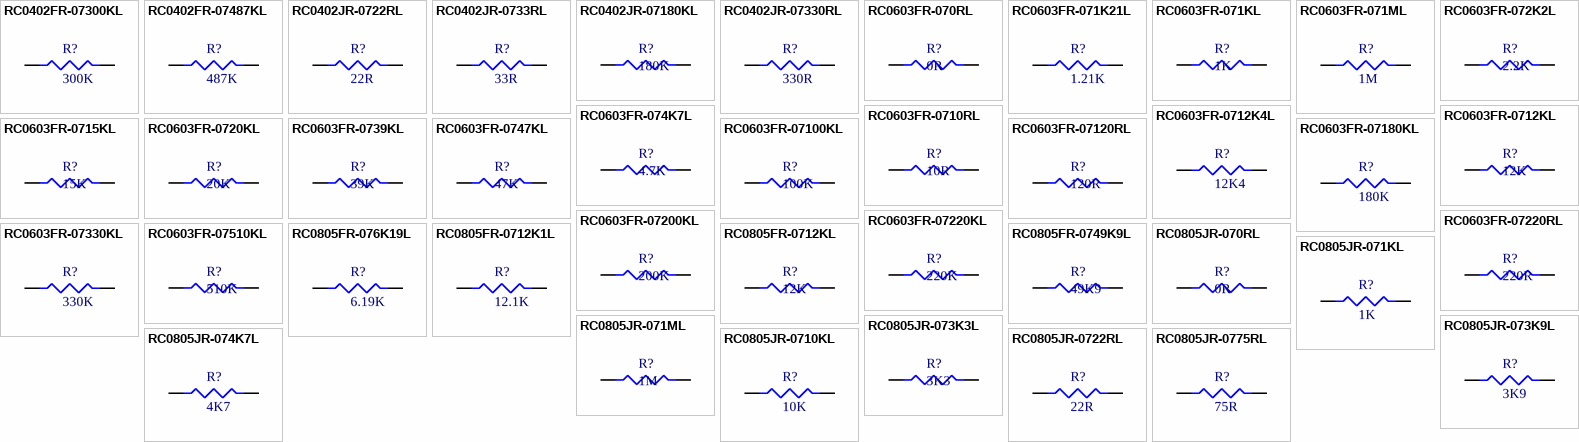
[diagram p1: symbols RC0402FR-07300KL to RC0805JR-0775RL]

## RC0402FR-07300KL
designator R?, comment 300K
300K, %1, 1/16W, 0402; Manufacturer: YAGEO; Manufacturer Part Number: RC0402FR-07300KL; Value: 300000; Power Rating: 63mW; Tolerance: 1%; Voltage Rating: 50V; Temperature Coefficient: 100ppm/°C; Purpose Of Usage: BASIC; Supplier 1: Digi-Key; RoHS: YES; Category: RESISTOR; Case/Package: 0402; Case Code (Imperial): 0402; Min Operating Temperature: -55°C; Max Operating Temperature: 155°C; Voltage Rating (DC): 50V; Max Power Dissipation: 63mW; Supplier Part Number 1: 311-300KLRTR-ND; Mount: SMD; Price 10K: 0.0025; Stock ID: ??; Sub-Category: CHIP RESISTOR; Local Supplier: GENERAL
footprint R0402 (Chip Resistor, 2-Leads, Body 1.00x0.50mm, IPC Medium Density)
pins: 1, 2

## RC0402FR-07487KL
designator R?, comment 487K
487K, %1, 1/16W, 0402; Manufacturer: YAGEO; Manufacturer Part Number: RC0402FR-07487KL; Value: 487000; Tolerance: 1%; Power Rating: 62.5mW; Voltage Rating: 50V; Max Power Dissipation: 63mW; Temperature Coefficient: 100ppm/°C; Purpose Of Usage: BASIC; Supplier 1: Digi-Key; RoHS: YES; Category: RESISTOR; Case/Package: 0402; Case Code (Imperial): 0402; Min Operating Temperature: -55°C; Max Operating Temperature: 155°C; Voltage Rating (DC): 50V; Supplier Part Number 1: YAG2372TR-ND; Local Supplier: GENERAL; Price 10K: 0.0025; Stock ID: ??; Sub-Category: CHIP RESISTOR; Mount: SMD
footprint R0402 (Chip Resistor, 2-Leads, Body 1.00x0.50mm, IPC Medium Density)
pins: 1, 2

## RC0402JR-0722RL
designator R?, comment 22R
22R, %5, 1/16W, 0402; Manufacturer: YAGEO; Manufacturer Part Number: RC0402JR-0722RL; Tolerance: 5%; Value: 22; Power Rating: 62.5mW; Voltage Rating: 50V; Temperature Coefficient: 100ppm/°C; Max Power Dissipation: 63mW; Purpose Of Usage: BASIC; Supplier 1: Digi-Key; RoHS: YES; Category: RESISTOR; Case/Package: 0402; Case Code (Imperial): 0402; Min Operating Temperature: -55°C; Max Operating Temperature: 155°C; Supplier Part Number 1: 311-22JRTR-ND; Mount: SMD; Stock ID: ??; Sub-Category: CHIP RESISTOR; Price 10K: 0.0025; Local Supplier: GENERAL
footprint R0402 (Chip Resistor, 2-Leads, Body 1.00x0.50mm, IPC Medium Density)
pins: 1, 2

## RC0402JR-0733RL
designator R?, comment 33R
33R, %5, 1/16W ,0402; Manufacturer: YAGEO; Manufacturer Part Number: RC0402JR-0733RL; Value: 33; Tolerance: 5%; Power Rating: 63mW; Voltage Rating: 50V; Temperature Coefficient: 100ppm/°C; Purpose Of Usage: BASIC; Supplier 1: Digi-Key; RoHS: YES; Category: RESISTOR; Case/Package: 0402; Case Code (Imperial): 0402; Min Operating Temperature: -55°C; Max Operating Temperature: 155°C; Max Power Dissipation: 63mW; Supplier Part Number 1: 311-33JRCT-ND; Stock ID: ??; Mount: SMD; Sub-Category: CHIP RESISTOR; Price 10K: 0.0025; Local Supplier: GENERAL
footprint R0402 (Chip Resistor, 2-Leads, Body 1.00x0.50mm, IPC Medium Density)
pins: 1, 2

## RC0402JR-07180KL
designator R?, comment 180K
180K, %1, 1/10W, 0402; Manufacturer: YAGEO; Manufacturer Part Number: RC0402JR-07180KL; Value: 180000; Tolerance: 5%; Power Rating: 63mW; Voltage Rating: 50V; Temperature Coefficient: 100ppm/°C; Purpose Of Usage: BASIC; Supplier 1: Digi-Key; RoHS: YES; Case/Package: 0402; Case Code (Imperial): 0402; Min Operating Temperature: -55°C; Max Operating Temperature: 155°C; Voltage Rating (DC): 50V; Max Power Dissipation: 63mW; Category: RESISTOR; Supplier Part Number 1: 311-180KJRCT-ND; Sub-Category: CHIP RESISTOR; Stock ID: ??; Mount: SMD; Price 10K: 0.0025; Local Supplier: GENERAL
footprint R0805
pins: 1, 2

## RC0402JR-07330RL
designator R?, comment 330R
330R, %5, 1/8W, 0402; Manufacturer: YAGEO; Manufacturer Part Number: RC0402JR-07330RL; Power Rating: 62.5mW; Value: 330; Tolerance: 5%; Voltage Rating: 50V; Temperature Coefficient: 100ppm/°C; Max Power Dissipation: 63mW; Purpose Of Usage: BASIC; Supplier 1: Digi-Key; RoHS: Yes; Category: RESISTOR; Case/Package: 0402; Case Code (Imperial): 0402; Min Operating Temperature: -55°C; Max Operating Temperature: 155°C; Supplier Part Number 1: 311-330JRDKR-ND; Local Supplier: GENERAL; Mount: SMD; Price 10K: 0.0025; Stock ID: ??; Sub-Category: CHIP RESISTOR; Voltage Rating (DC): 50V
footprint R0402 (Chip Resistor, 2-Leads, Body 1.00x0.50mm, IPC Medium Density)
pins: 1, 2

## RC0603FR-070RL
designator R?, comment 0R
0R ,%1 ,1/10 W ,0603; Manufacturer: YAGEO; Manufacturer Part Number: RC0603FR-070RL; Value: 0; Power Rating: 100mW; Tolerance: 1%; Voltage Rating: 50V; Temperature Coefficient: 200ppm/°C; Working Voltage: 75V; Purpose Of Usage: BASIC; Supplier 1: Digi-Key; Supplier Part Number 1: 311-0.0HRCT-ND; RoHS: YES; Case/Package: 0603; Case Code (Imperial): 0603; Min Operating Temperature: -55°C; Max Operating Temperature: 155°C; Max Power Dissipation: 100mW; Voltage Rating (DC): 50V; Category: RESISTOR; Supplier 2: JLCPCB; Supplier Part Number 2: C21189; Sub-Category: CHIP RESISTOR; Stock ID: ??; Mount: SMD; Price 10K: 0.0025; Local Supplier: GENERAL
footprint R0603
pins: 1, 2

## RC0603FR-071K21L
designator R?, comment 1.21K
1.21K, %1, 1/10W, 0603; Manufacturer: YAGEO; Manufacturer Part Number: RC0603FR-071K21L; Tolerance: 1%; Value: 1210; Power Rating: 100mW; Voltage Rating: 50V; Temperature Coefficient: 100ppm/°C; Working Voltage: 75V; Purpose Of Usage: BASIC; Supplier 1: Digi-Key; Supplier Part Number 1: 311-1.21KHRCT-ND; RoHS: YES; Case/Package: 0603; Case Code (Imperial): 0603; Min Operating Temperature: -55°C; Max Operating Temperature: 155°C; Voltage Rating (DC): 50V; Category: RESISTOR; Sub-Category: CHIP RESISTOR; Stock ID: ??; Mount: SMD; Max Power Dissipation: 100mW; Price 10K: 0.0025; Local Supplier: GENERAL
footprint R0603
pins: 1, 2

## RC0603FR-071KL
designator R?, comment 1K
1K, %1, 1/10W, 0603; Manufacturer: YAGEO; Manufacturer Part Number: RC0603FR-071KL; Tolerance: 1%; Value: 1000; Temperature Coefficient: 100ppm/°C; Power Rating: 100mW; Voltage Rating: 50V; Purpose Of Usage: BASIC; Supplier 1: Digi-Key; Supplier Part Number 1: 311-1.00KHRCT-ND; RoHS: YES; Case/Package: 0603; Case Code (Imperial): 0603; Min Operating Temperature: -55°C; Max Operating Temperature: 155°C; Category: RESISTOR; Supplier 2: JLCPCB; Supplier Part Number 2: C21190; Sub-Category: CHIP RESISTOR; Stock ID: ??; Mount: SMD; Max Power Dissipation: 100mW; Price 10K: 0.0025; Local Supplier: GENERAL
footprint R0603
pins: 1, 2

## RC0603FR-071ML
designator R?, comment 1M
1M, %1, 1/10W, 0603; Manufacturer: YAGEO; Manufacturer Part Number: RC0603FR-071ML; Voltage Rating: 75V; Voltage Rating (DC): 50V; Value: 1000000; Tolerance: 1%; Power Rating: 100mW; Temperature Coefficient: 100ppm/°C; Purpose Of Usage: BASIC; Supplier 1: Digi-Key; RoHS: YES; Case/Package: 0603; Case Code (Imperial): 0603; Min Operating Temperature: -55°C; Max Operating Temperature: 155°C; Category: RESISTOR; Supplier Part Number 1: 311-1.00MHRCT-ND; Supplier 2: JLCPCB; Supplier Part Number 2: C22935; Sub-Category: CHIP RESISTOR; Stock ID: ??; Mount: SMD; Max Power Dissipation: 100mW; Price 10K: 0.0025; Local Supplier: GENERAL
footprint R0603
pins: 1, 2

## RC0603FR-072K2L
designator R?, comment 2.2K
2.2K, %1, 0.1W, 0603; Manufacturer: YAGEO; Manufacturer Part Number: RC0603FR-072K2L; Value: 2200; Tolerance: 1%; Power Rating: 100mW; Temperature Coefficient: 100ppm/°C; Voltage Rating: 50V; Purpose Of Usage: BASIC; Supplier 1: Digi-Key; Supplier Part Number 1: 311-2.20KHRCT-ND; RoHS: YES; Case/Package: 0603; Case Code (Imperial): 0603; Min Operating Temperature: -55°C; Max Operating Temperature: 155°C; Max Power Dissipation: 100mW; Category: RESISTOR; Sub-Category: CHIP RESISTOR; Stock ID: ??; Mount: SMD; Price 10K: 0.0025; Local Supplier: GENERAL
footprint R0603
pins: 1, 2

## RC0603FR-074K7L
designator R?, comment 4.7K
4.7K ,%1 ,1/10 W ,0603; Manufacturer: YAGEO; Manufacturer Part Number: RC0603FR-074K7L; Value: 4700; Tolerance: 1%; Voltage Rating (DC): 50V; Temperature Coefficient: 100ppm/°C; Power Rating: 100mW; Purpose Of Usage: BASIC; Supplier 1: Digi-Key; Supplier Part Number 1: 311-4.70KHRCT-ND; RoHS: YES; Case/Package: 0603; Case Code (Imperial): 0603; Min Operating Temperature: -55°C; Max Operating Temperature: 155°C; Voltage Rating: 50V; Category: RESISTOR; Supplier 2: JLCPCB; Supplier Part Number 2: C23162; Sub-Category: CHIP RESISTOR; Stock ID: ??; Mount: SMD; Max Power Dissipation: 100mW; Price 10K: 0.0025; Local Supplier: GENERAL
footprint R0603
pins: 1, 2

## RC0603FR-0710RL
designator R?, comment 10R
10R, %1, 1/10W, 0603; Manufacturer: YAGEO; Manufacturer Part Number: RC0603FR-0710RL; Value: 10; Tolerance: 1%; Voltage Rating (DC): 50V; Temperature Coefficient: 200ppm/°C; Power Rating: 100mW; Purpose Of Usage: BASIC; Supplier 1: Digi-Key; Supplier Part Number 1: 311-10.0HRCT-ND; RoHS: YES; Case/Package: 0603; Case Code (Imperial): 0603; Min Operating Temperature: -55°C; Max Operating Temperature: 155°C; Voltage Rating: 50V; Category: RESISTOR; Sub-Category: CHIP RESISTOR; Stock ID: ??; Mount: SMD; Max Power Dissipation: 100mW; Price 10K: 0.0025; Local Supplier: GENERAL
footprint R0603
pins: 1, 2

## RC0603FR-0712K4L
designator R?, comment 12K4
12.4K, %1, 1/10W, 0603; Manufacturer: YAGEO; Manufacturer Part Number: RC0603FR-0712K4L; Value: 12400; Tolerance: 1%; Power Rating: 100mW; Voltage Rating: 50V; Temperature Coefficient: 100ppm/°C; Working Voltage: 75V; Purpose Of Usage: BASIC; Supplier 1: Digi-Key; RoHS: YES; Category: RESISTOR; Case/Package: 0603; Case Code (Imperial): 0603; Min Operating Temperature: -55°C; Max Operating Temperature: 155°C; Max Power Dissipation: 100mW; Voltage Rating (DC): 50V; Supplier Part Number 1: 311-12.4KHRTR-ND; Mount: SMD; Price 10K: 0.0025; Stock ID: ??; Sub-Category: CHIP RESISTOR; Local Supplier: GENERAL
footprint R0603 (Chip Resistor, 2-Leads, Body 1.60x0.80mm, IPC Medium Density)
pins: 1, 2

## RC0603FR-0712KL
designator R?, comment 12K
12K, %1, 1/10W, 0603; Manufacturer: YAGEO; Manufacturer Part Number: RC0603FR-0712KL; Value: 12000; Tolerance: 1%; Power Rating: 100mW; Voltage Rating (DC): 50V; Temperature Coefficient: 100ppm/°C; Purpose Of Usage: BASIC; Supplier 1: Digi-Key; Supplier Part Number 1: 311-12.0KHRCT-ND; RoHS: YES; Case/Package: 0603; Case Code (Imperial): 0603; Min Operating Temperature: -55°C; Max Operating Temperature: 155°C; Voltage Rating: 50V; Max Power Dissipation: 100mW; Category: RESISTOR; Sub-Category: CHIP RESISTOR; Stock ID: ??; Mount: SMD; Price 10K: 0.0025; Local Supplier: GENERAL
footprint R0603
pins: 1, 2

## RC0603FR-0715KL
designator R?, comment 15K
15K, 1%, 1/10W, 0603; Manufacturer: YAGEO; Manufacturer Part Number: RC0603FR-0715KL; Value: 15000; Temperature Coefficient: 100ppm/°C; Voltage Rating (DC): 50V; Power Rating: 100mW; Purpose Of Usage: BASIC; Supplier 1: Digi-Key; Supplier Part Number 1: 311-15.0KHRDKR-ND; RoHS: YES; Case/Package: 0603; Case Code (Imperial): 0603; Min Operating Temperature: -55°C; Max Operating Temperature: 155°C; Tolerance: 1%; Voltage Rating: 50V; Max Power Dissipation: 100mW; Category: RESISTOR; Sub-Category: CHIP RESISTOR; Stock ID: ??; Mount: SMD; Price 10K: 0.0025; Local Supplier: GENERAL
footprint R0603
pins: 1, 2

## RC0603FR-0720KL
designator R?, comment 20K
20K, %1, 1/10W, 0603; Manufacturer: YAGEO; Manufacturer Part Number: RC0603FR-0720KL; Value: 20000; Tolerance: 1%; Temperature Coefficient: 100ppm/°C; Voltage Rating (DC): 50V; Power Rating: 100mW; Purpose Of Usage: BASIC; Supplier 1: Digi-Key; Supplier Part Number 1: 311-20.0KHRCT-ND; RoHS: YES; Case/Package: 0603; Case Code (Imperial): 0603; Min Operating Temperature: -55°C; Max Operating Temperature: 155°C; Voltage Rating: 50V; Max Power Dissipation: 100mW; Category: RESISTOR; Sub-Category: CHIP RESISTOR; Stock ID: ??; Mount: SMD; Price 10K: 0.0025; Local Supplier: GENERAL
footprint R0603
pins: 1, 2

## RC0603FR-0739KL
designator R?, comment 39K
39K, %1, 1/10W, 0603; Manufacturer: YAGEO; Manufacturer Part Number: RC0603FR-0739KL; Tolerance: 1%; Value: 39000; Power Rating: 100mW; Voltage Rating: 50V; Temperature Coefficient: 100ppm/°C; Purpose Of Usage: BASIC; Supplier 1: Digi-Key; Supplier Part Number 1: 311-39.0KHRCT-ND; RoHS: YES; Case/Package: 0603; Case Code (Imperial): 0603; Min Operating Temperature: -55°C; Max Operating Temperature: 155°C; Voltage Rating (DC): 50V; Category: RESISTOR; Sub-Category: CHIP RESISTOR; Stock ID: ??; Mount: SMD; Max Power Dissipation: 100mW; Price 10K: 0.0025; Local Supplier: GENERAL
footprint R0603
pins: 1, 2

## RC0603FR-0747KL
designator R?, comment 47K
47K, %1, 1/10W, 0603; Manufacturer: YAGEO; Manufacturer Part Number: RC0603FR-0747KL; Tolerance: 1%; Voltage Rating (DC): 50V; Value: 47000; Temperature Coefficient: 100ppm/°C; Power Rating: 100mW; Purpose Of Usage: BASIC; Supplier 1: Digi-Key; Supplier Part Number 1: 311-47.0KHRCT-ND; RoHS: YES; Case/Package: 0603; Case Code (Imperial): 0603; Min Operating Temperature: -55°C; Max Operating Temperature: 155°C; Voltage Rating: 50V; Max Power Dissipation: 100mW; Category: RESISTOR; Supplier 2: JLCPCB; Supplier Part Number 2: C25819; Sub-Category: CHIP RESISTOR; Stock ID: ??; Mount: SMD; Price 10K: 0.0025; Local Supplier: GENERAL
footprint R0603
pins: 1, 2

## RC0603FR-07100KL
designator R?, comment 100K
100K, %1, 1/10W, 0603; Manufacturer: YAGEO; Manufacturer Part Number: RC0603FR-07100KL; Tolerance: 1%; Value: 100000; Temperature Coefficient: 100ppm/°C; Voltage Rating (DC): 50V; Power Rating: 100mW; Working Voltage: 75V; Purpose Of Usage: BASIC; Supplier 1: Digi-Key; Supplier Part Number 1: 311-100KHRCT-ND; RoHS: YES; Case/Package: 0603; Case Code (Imperial): 0603; Min Operating Temperature: -55°C; Max Operating Temperature: 155°C; Voltage Rating: 50V; Category: RESISTOR; Supplier 2: JLCPCB; Supplier Part Number 2: C25803; Sub-Category: CHIP RESISTOR; Stock ID: ??; Mount: SMD; Max Power Dissipation: 100mW; Price 10K: 0.0025; Local Supplier: GENERAL
footprint R0603
pins: 1, 2

## RC0603FR-07120RL
designator R?, comment 120R
120R ,%1 ,1/10 W ,0603; Manufacturer: YAGEO; Manufacturer Part Number: RC0603FR-07120RL; Value: 120; Tolerance: 1%; Voltage Rating (DC): 50V; Temperature Coefficient: 100ppm/°C; Power Rating: 100mW; Purpose Of Usage: BASIC; Supplier 1: Digi-Key; Supplier Part Number 1: 311-120HRCT-ND; RoHS: YES; Case/Package: 0603; Case Code (Imperial): 0603; Min Operating Temperature: -55°C; Max Operating Temperature: 155°C; Voltage Rating: 50V; Max Power Dissipation: 100mW; Category: RESISTOR; Sub-Category: CHIP RESISTOR; Stock ID: ??; Mount: SMD; Price 10K: 0.0025; Local Supplier: GENERAL
footprint R0603
pins: 1, 2

## RC0603FR-07180KL
designator R?, comment 180K
180K, %1, 1/10W, 0603; Manufacturer: YAGEO; Manufacturer Part Number: RC0603FR-07180KL; Voltage Rating (DC): 50V; Tolerance: 1%; Value: 180000; Power Rating: 100mW; Temperature Coefficient: 100ppm/°C; Working Voltage: 75V; Purpose Of Usage: BASIC; Supplier 1: Digi-Key; RoHS: YES; Case/Package: 0603; Case Code (Imperial): 0603; Min Operating Temperature: -55°C; Max Operating Temperature: 155°C; Voltage Rating: 50V; Max Power Dissipation: 100mW; Category: RESISTOR; Supplier Part Number 2: C22827; Supplier Part Number 1: 311-180KHRCT-ND; Supplier 2: JLCPCB; Sub-Category: CHIP RESISTOR; Stock ID: ??; Mount: SMD; Price 10K: 0.0025; Local Supplier: GENERAL
footprint R0603
pins: 1, 2

## RC0603FR-07200KL
designator R?, comment 200K
200K, %1, 1/10W, 0603; Manufacturer: YAGEO; Manufacturer Part Number: RC0603FR-07200KL; Value: 200000; Tolerance: 1%; Temperature Coefficient: 100ppm/°C; Voltage Rating (DC): 50V; Power Rating: 100mW; Purpose Of Usage: BASIC; Supplier 1: Digi-Key; Supplier Part Number 1: 311-200KHRCT-ND; RoHS: YES; Case/Package: 0603; Case Code (Imperial): 0603; Min Operating Temperature: -55°C; Max Operating Temperature: 155°C; Voltage Rating: 50V; Max Power Dissipation: 100mW; Category: RESISTOR; Sub-Category: CHIP RESISTOR; Stock ID: ??; Mount: SMD; Price 10K: 0.0025; Local Supplier: GENERAL
footprint R0603
pins: 1, 2

## RC0603FR-07220KL
designator R?, comment 220K
220K, %1, 1/10W, 0603; Manufacturer: YAGEO; Manufacturer Part Number: RC0603FR-07220KL; Tolerance: 1%; Power Rating: 100mW; Value: 220000; Temperature Coefficient: 100ppm/°C; Voltage Rating (DC): 50V; Purpose Of Usage: BASIC; Supplier 1: Digi-Key; Supplier Part Number 1: 311-220KHRCT-ND; RoHS: YES; Case/Package: 0603; Case Code (Imperial): 0603; Min Operating Temperature: -55°C; Max Operating Temperature: 155°C; Voltage Rating: 50V; Max Power Dissipation: 100mW; Category: RESISTOR; Sub-Category: CHIP RESISTOR; Stock ID: ??; Mount: SMD; Price 10K: 0.0025; Local Supplier: GENERAL
footprint R0603
pins: 1, 2

## RC0603FR-07220RL
designator R?, comment 220R
220R, %1, 1/10W, 0603; Manufacturer: YAGEO; Manufacturer Part Number: RC0603FR-07220RL; Value: 220; Tolerance: 1%; Voltage Rating (DC): 50V; Temperature Coefficient: 100ppm/°C; Power Rating: 100mW; Purpose Of Usage: BASIC; Supplier 1: Digi-Key; Supplier Part Number 1: 311-220HRCT-ND; RoHS: YES; Case/Package: 0603; Case Code (Imperial): 0603; Min Operating Temperature: -55°C; Max Operating Temperature: 155°C; Voltage Rating: 50V; Max Power Dissipation: 100mW; Category: RESISTOR; Sub-Category: CHIP RESISTOR; Stock ID: ??; Mount: SMD; Price 10K: 0.0025; Local Supplier: GENERAL
footprint R0603
pins: 1, 2

## RC0603FR-07330KL
designator R?, comment 330K
330K, %1, 1/10W, 0603; Manufacturer: YAGEO; Manufacturer Part Number: RC0603FR-07330KL; Tolerance: 1%; Power Rating: 100mW; Value: 330000; Voltage Rating (DC): 50V; Temperature Coefficient: 100ppm/°C; Voltage Rating: 75V; Purpose Of Usage: BASIC; Supplier 1: Digi-Key; RoHS: YES; Case/Package: 0603; Case Code (Imperial): 0603; Min Operating Temperature: -55°C; Max Operating Temperature: 155°C; Max Power Dissipation: 100mW; Category: RESISTOR; Supplier Part Number 1: 311-330KHRCT-ND; Sub-Category: CHIP RESISTOR; Stock ID: ??; Mount: SMD; Price 10K: 0.0025; Local Supplier: GENERAL
footprint R0603
pins: 1, 2

## RC0603FR-07510KL
designator R?, comment 510K
510K, %1, 1/10W, 0603; Manufacturer: YAGEO; Manufacturer Part Number: RC0603FR-07510KL; Tolerance: 1%; Power Rating: 100mW; Value: 510000; Voltage Rating: 50V; Temperature Coefficient: 100ppm/°C; Purpose Of Usage: BASIC; Supplier 1: Digi-Key; Supplier Part Number 1: 311-510KHRCT-ND; RoHS: YES; Case/Package: 0603; Case Code (Imperial): 0603; Min Operating Temperature: -55°C; Max Operating Temperature: 155°C; Max Power Dissipation: 100mW; Voltage Rating (DC): 50V; Category: RESISTOR; Sub-Category: CHIP RESISTOR; Stock ID: ??; Mount: SMD; Price 10K: 0.0025; Local Supplier: GENERAL
footprint R0603
pins: 1, 2

## RC0805FR-076K19L
designator R?, comment 6.19K
6.19K, %1, 1/10W, 0805; Manufacturer: YAGEO; Manufacturer Part Number: RC0805FR-076K19L; Tolerance: 1%; Value: 6190; Power Rating: 125mW; Voltage Rating: 150V; Temperature Coefficient: 100ppm/°C; Purpose Of Usage: BASIC; Supplier 1: Digi-Key; Supplier Part Number 1: 311-6.19KCRCT-ND; RoHS: YES; Case/Package: 0805; Case Code (Imperial): 0805; Min Operating Temperature: -55°C; Max Operating Temperature: 155°C; Voltage Rating (DC): 150V; Max Power Dissipation: 125mW; Category: RESISTOR; Sub-Category: CHIP RESISTOR; Stock ID: ??; Mount: SMD; Price 10K: 0.0025; Local Supplier: GENERAL
footprint R0805
pins: 1, 2

## RC0805FR-0712K1L
designator R?, comment 12.1K
12.1K, %1, 1/10W, 0805; Manufacturer: YAGEO; Manufacturer Part Number: RC0805FR-0712K1L; Value: 12100; Power Rating: 125mW; Tolerance: 1%; Temperature Coefficient: 100ppm/°C; Voltage Rating (DC): 150V; Purpose Of Usage: BASIC; Supplier 1: Digi-Key; Supplier Part Number 1: 311-12.1KCRCT-ND; RoHS: YES; Case/Package: 0805; Case Code (Imperial): 0805; Min Operating Temperature: -55°C; Max Operating Temperature: 155°C; Voltage Rating: 150V; Max Power Dissipation: 125mW; Category: RESISTOR; Sub-Category: CHIP RESISTOR; Stock ID: ??; Mount: SMD; Price 10K: 0.0025; Local Supplier: GENERAL
footprint R0805
pins: 1, 2

## RC0805FR-0712KL
designator R?, comment 12K
12K, %1, 1/10W, 0805; Manufacturer: YAGEO; Manufacturer Part Number: RC0805FR-0712KL; Tolerance: 1%; Power Rating: 125mW; Temperature Coefficient: 100ppm/°C; Value: 12000; Voltage Rating (DC): 150V; Purpose Of Usage: BASIC; Supplier 1: Digi-Key; RoHS: YES; Mount: SMD; Case/Package: 0805; Min Operating Temperature: -55°C; Max Operating Temperature: 155°C; Supplier Part Number 1: 311-12.0KCRDKR-ND; Category: RESISTOR; Sub-Category: CHIP RESISTOR; Case Code (Imperial): 0805; Stock ID: ??; Max Power Dissipation: 125mW; Price 10K: 0.0025; Local Supplier: GENERAL
footprint R0805
pins: 1, 2

## RC0805FR-0749K9L
designator R?, comment 49K9
49.9K, %1, 1/8W, 0805; Manufacturer: YAGEO; Manufacturer Part Number: RC0805FR-0749K9L; Voltage Rating (DC): 150V; Temperature Coefficient: 100ppm/°C; Value: 49900; Power Rating: 125mW; Tolerance: 1%; Purpose Of Usage: BASIC; Supplier 1: Digi-Key; RoHS: YES; Mount: SMD; Case/Package: 0805; Case Code (Imperial): 0805; Min Operating Temperature: -55°C; Max Operating Temperature: 155°C; Voltage Rating: 150V; Max Power Dissipation: 125mW; Working Voltage: 150V; Category: RESISTOR; Supplier Part Number 1: 311-49.9KCRCT-ND; Sub-Category: CHIP RESISTOR; Stock ID: ??; Price 10K: 0.0025; Local Supplier: GENERAL
footprint R0805
pins: 1, 2

## RC0805JR-070RL
designator R?, comment 0R
0R, %5, 1/8W, 0805; Manufacturer: YAGEO; Manufacturer Part Number: RC0805JR-070RL; Value: 0; Tolerance: 5%; Voltage Rating: 150V; Power Rating: 125mW; Temperature Coefficient: 200ppm/°C; Purpose Of Usage: BASIC; Supplier 1: Digi-Key; RoHS: YES; Case/Package: 0805; Case Code (Imperial): 0805; Min Operating Temperature: -55°C; Max Operating Temperature: 155°C; Voltage Rating (DC): 150V; Supplier Part Number 1: 311-0.0ARCT-ND; Category: RESISTOR; Sub-Category: CHIP RESISTOR; Stock ID: ??; Mount: SMD; Max Power Dissipation: 125mW; Price 10K: 0.0025; Local Supplier: GENERAL
footprint R0805
pins: 1, 2